# Altium footprint library Diode_ON_Semi_MBR0520L_eec_0.PcbLib: 1 footprints
Each footprint in its own frame and in the unit in brackets; x right, y up, seen from the top. Pads: shape width x height; smd on the part's side, far side on the other; paste and mask are expansions set on the pad; w line width, h text height; cw(c..) or ccw(c..) is an arc to the next point about the centre after c.
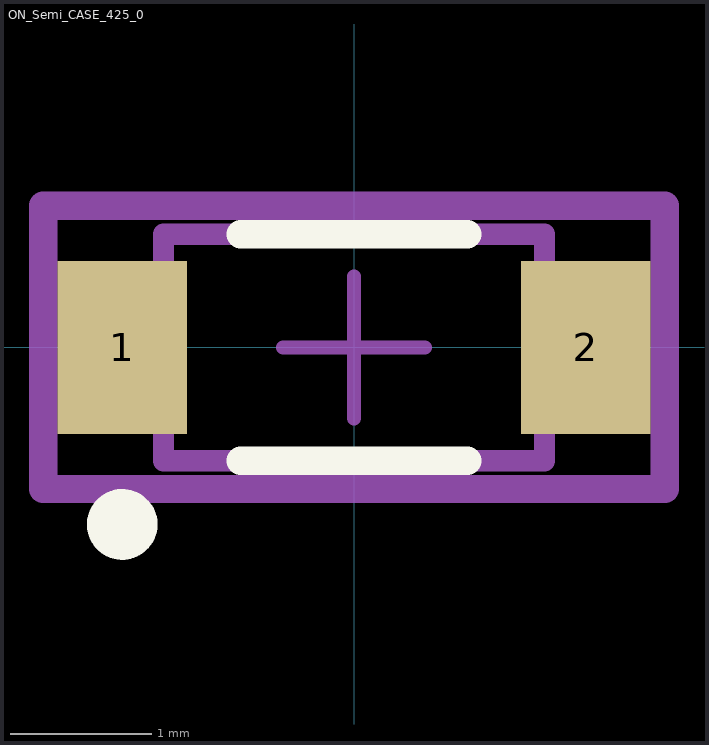
[diagram p0: the footprint, top view; thin cyan lines are the x and y axes]

## ON_Semi_CASE_425_0 [mm]
pads (2):
  rect 0.915x1.22 smd paste+0 mask+0: 1(-1.637,0) 2(1.637,0)
Top Overlay:
  circle w0.25: c-1.637,-1.25 r0.125
  lines w0.2: -0.8,-0.8 0.8,-0.8 ; -0.8,0.8 0.8,0.8
Mechanical 10:
  lines w0.2: -2.195,-1 -2.195,1 2.195,1 2.195,-1 -2.195,-1
  text ".Designator" at -0.254,1.27 h1
Mechanical 12:
  lines w0.15: -1.345,-0.8 -1.345,0.8 1.345,0.8 1.345,-0.8 -1.345,-0.8
Mechanical 15:
  lines w0.1: -0.5,0 0.5,0 ; 0,-0.5 0,0.5
  lines w0.2: -2.195,-1 -2.195,1 2.195,1 2.195,-1 -2.195,-1
3D body "3dmodel.step": height 0.25, standoff 0, extent -2.195,-1 2.195,1